# Altium schematic symbol library STM32F4DISCOVERY.SchLib: 1 symbol
Pins are listed as number, name and electrical type; pins without a type are passive.

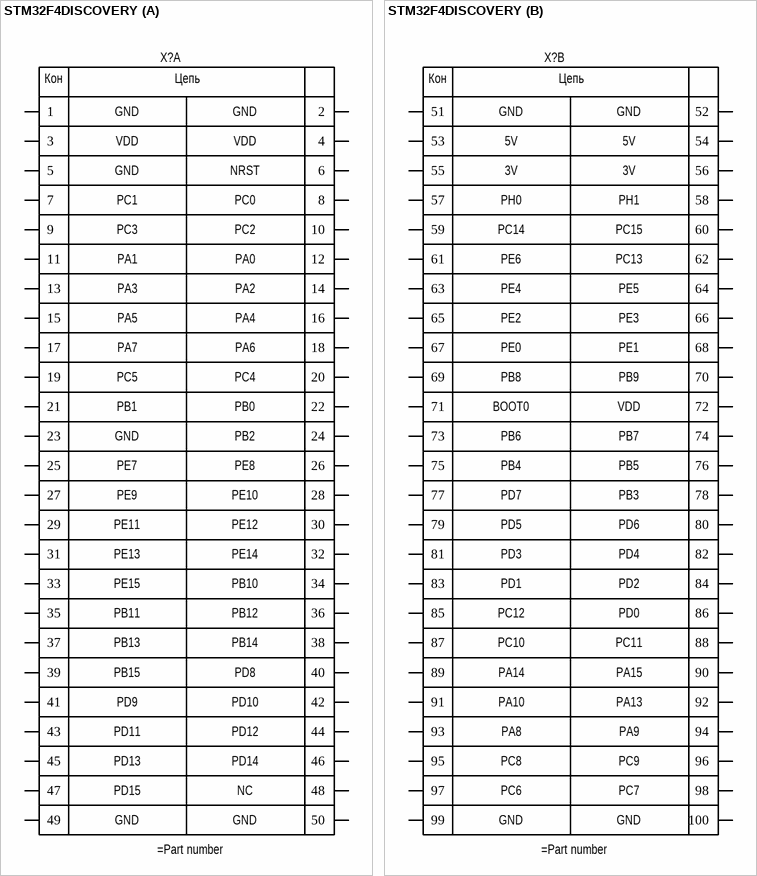
[diagram p0: symbol STM32F4DISCOVERY]

## STM32F4DISCOVERY
designator X?
part A pins: 1, 2, 3, 4, 5, 6, 7, 8, 9, 10, 11, 12, 13, 14, 15, 16, 17, 18, 19, 20, 21, 22, 23, 24, 25, 26, 27, 28, 29, 30, 31, 32, 33, 34, 35, 36, 37, 38, 39, 40, 41, 42, 43, 44, 45, 46, 47, 48, 49, 50
part B pins: 51, 52, 53, 54, 55, 56, 57, 58, 59, 60, 61, 62, 63, 64, 65, 66, 67, 68, 69, 70, 71, 72, 73, 74, 75, 76, 77, 78, 79, 80, 81, 82, 83, 84, 85, 86, 87, 88, 89, 90, 91, 92, 93, 94, 95, 96, 97, 98, 99, 100
part A text: Кон; Цепь; GND; VDD; NRST; PC1; PC0; PC3; PC2; PA1; PA0; PA3; PA2; PA5; PA4; PA7; PA6; PC5; PC4; PB1; PB0; PB2; PE7; PE8; PE9; PE10; PE11; PE12; PE13; PE14; PE15; PB10; PB11; PB12; PB13; PB14; PB15; PD8; PD9; PD10; PD11; PD12; PD13; PD14; PD15; NC
part B text: Кон; Цепь; GND; 5V; 3V; PH0; PH1; PC14; PC15; PE6; PC13; PE4; PE5; PE2; PE3; PE0; PE1; PB8; PB9; BOOT0; VDD; PB6; PB7; PB4; PB5; PD7; PB3; PD5; PD6; PD3; PD4; PD1; PD2; PC12; PD0; PC10; PC11; PA14; PA15; PA10; PA13; PA8; PA9; PC8; PC9; PC6; PC7